# EAGLE library part CAN_6P6C (library E-P-001-R2.0)
Digikey part: 553-2258-ND
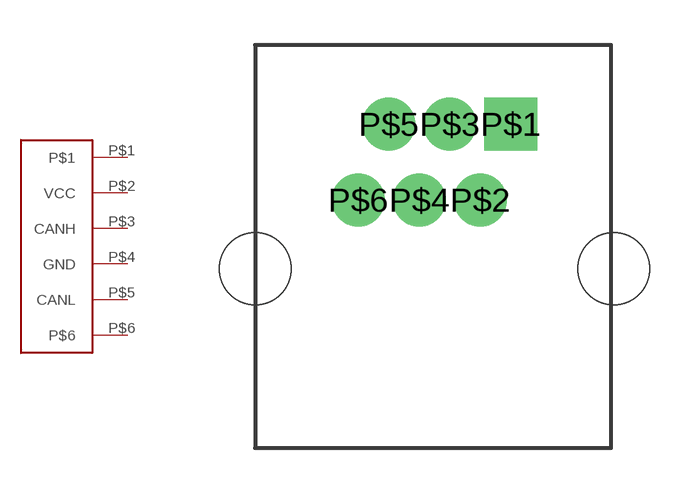
[diagram p5: symbol with the pads of CAN_6P6C; footprint CAN_6P6C]

Designator prefix -

## CAN_6P6C  [CAN_6P6C]
P$1  P$1
P$2  VCC
P$3  CANH
P$4  GND
P$5  CANL
P$6  P$6

## Footprint CAN_6P6C (pad centres in mm)
drill 0.9 pad 1.778 square: P$1 4.08,0
drill 0.9 pad 1.778: P$2 3.06,-2.54; P$3 2.04,0; P$4 1.02,-2.54; P$5 0,0; P$6 -1.02,-2.54
hole 2.4 at -4.47,-4.84
hole 2.4 at 7.53,-4.84